# Altium schematic symbol library ESP.SchLib: 1 symbol
Pins are listed as number, name and electrical type; pins without a type are passive.

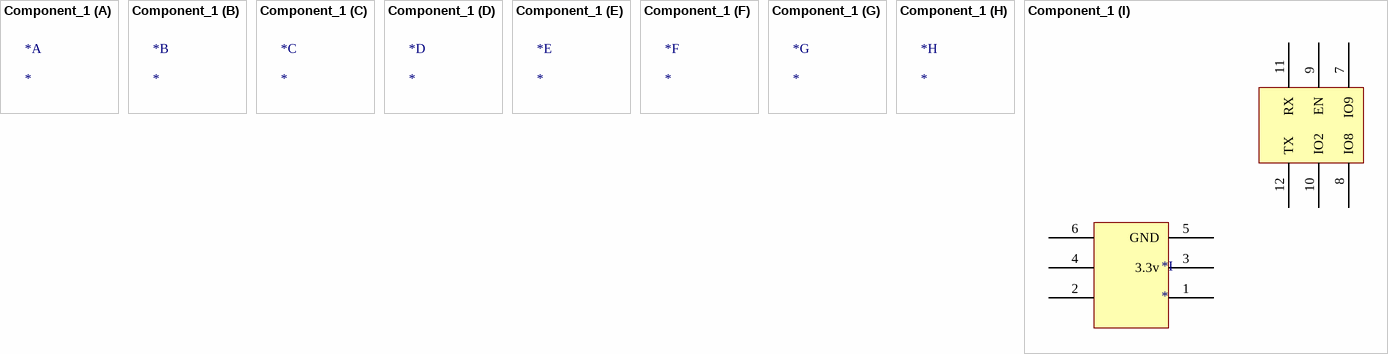
[diagram p0: symbol Component_1]

## Component_1
designator *
footprint PCBComponent_1
part I pins: 1, 2, 3 3.3v, 4, 5 GND, 6, 7 IO9, 8 IO8, 9 EN, 10 IO2, 11 RX, 12 TX